# EAGLE library part VL53L0X (library robotter_ic)
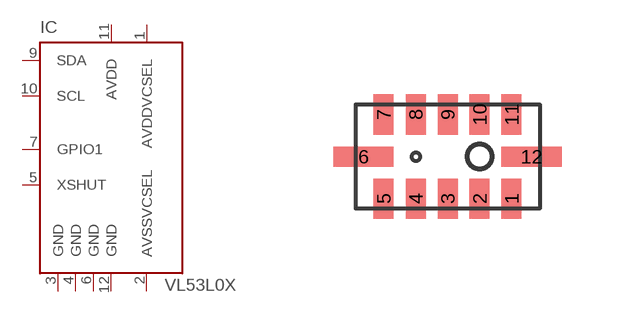
[diagram p30: symbol with the pads of LGA12; footprint LGA12]

Designator prefix IC

## VL53L0X (VALUE: VL53L0x)  [LGA12]
1  AVDDVCSEL  sup
2  AVSSVCSEL  sup
3  GND
4  GND
5  XSHUT
6  GND
7  GPIO1  out
9  SDA
10  SCL  in
11  AVDD
12  GND

## Footprint LGA12 (pad centres in mm)
smd 0.5 x 1: 1 1.6,-1.05; 2 0.8,-1.05; 3 0,-1.05; 4 -0.8,-1.05; 5 -1.6,-1.05; 7 -1.6,1.05; 8 -0.8,1.05; 9 0,1.05; 10 0.8,1.05; 11 1.6,1.05
smd 1.5 x 0.5: 6 -2.1,0; 12 2.1,0